# EAGLE library part ATMEGAN8 (library My Atmel)
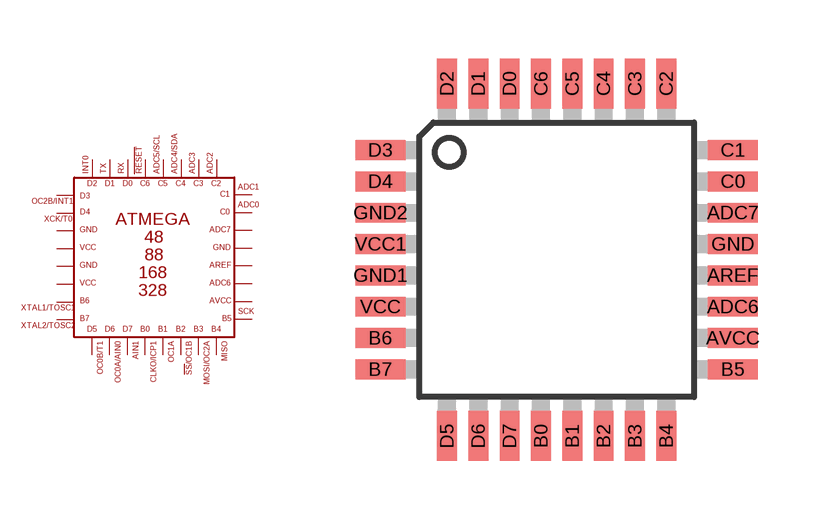
[diagram p0: symbol with the pads of TQFP32-08; footprint TQFP32-08]

Designator prefix -

## ATMEGAN8  [TQFP32-08]
ADC6  ADC6
ADC7  ADC7
AREF  AREF
AVCC  AVCC
B0  B0
B1  B1
B2  B2
B3  B3
B4  B4
B5  B5
B6  B6
B7  B7
C0  C0
C1  C1
C2  C2
C3  C3
C4  C4
C5  C5
C6  C6
D0  D0
D1  D1
D2  D2
D3  D3
D4  D4
D5  D5
D6  D6
D7  D7
GND  GND
GND1  GND1
GND2  GND2
VCC  VCC
VCC1  VCC1

## Footprint TQFP32-08 (pad centres in mm)
Thin Plasic Quad Flat Package Grid 0.8 mm
smd 1.27 x 0.508: ADC6 4.5,-1.2; ADC7 4.5,1.2; AREF 4.5,-0.4; AVCC 4.5,-2; B5 4.5,-2.8; B6 -4.5,-2; B7 -4.5,-2.8; C0 4.5,2; C1 4.5,2.8; D3 -4.5,2.8; D4 -4.5,2; GND 4.5,0.4; GND1 -4.5,-0.4; GND2 -4.5,1.2; VCC -4.5,-1.2; VCC1 -4.5,0.4
smd 0.508 x 1.27: B0 -0.4,-4.5; B1 0.4,-4.5; B2 1.2,-4.5; B3 2,-4.5; B4 2.8,-4.5; C2 2.8,4.5; C3 2,4.5; C4 1.2,4.5; C5 0.4,4.5; C6 -0.4,4.5; D0 -1.2,4.5; D1 -2,4.5; D2 -2.8,4.5; D5 -2.8,-4.5; D6 -2,-4.5; D7 -1.2,-4.5